# Altium schematic symbol library SpiritLevel_2E.SchLib: 39 symbols
Pins are listed as number, name and electrical type; pins without a type are passive.

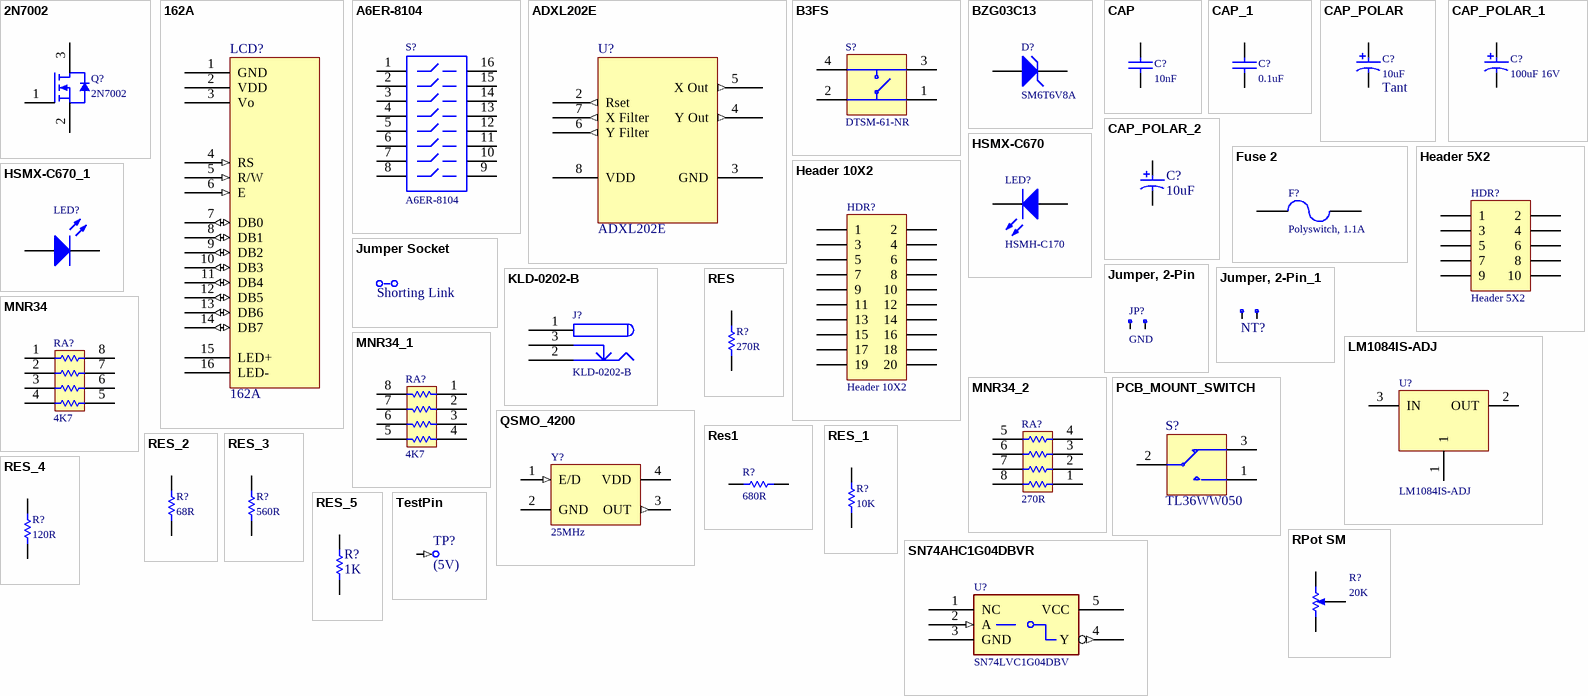
[diagram p0: symbols 2N7002 to TestPin]

## 2N7002
designator Q?
N Channel Mosfet
footprint Model Name (Model Description)
footprint SO-G3
3D model sot23-3 (PCB3D Model)
pins: 1 "Gate", 2 "Source", 3 "Drain"

## 162A
designator LCD?
16 char * 2 line LCD character display with b/light
footprint 162A
3D model 162a (PCB3D Model)
pins: 1 GND (power) "VSS - 0V", 2 VDD (power) "VDD - 5V", 3 Vo (hiz) "Input Voltage For LCD", 4 RS (in) "H = Data Signal, L = Instrunction Signal", 5 R/W (in) "H = Read Mode, L = Write Mode", 6 E (in) "Chip Enable (H, H->L)", 7 DB0 (io) "Chip Enable (H, H->L)", 8 DB1 (io) "Chip Enable (H, H->L)", 9 DB2 (io) "Chip Enable (H, H->L)", 10 DB3 (io) "Chip Enable (H, H->L)", 11 DB4 (io) "Chip Enable (H, H->L)", 12 DB5 (io) "Chip Enable (H, H->L)", 13 DB6 (io) "Chip Enable (H, H->L)", 14 DB7 (io) "Chip Enable (H, H->L)", 15 LED+ (power) "LED Backlight +", 16 LED- (power) "LED Backlight -"

## A6ER-8104
designator S?
DIP Switch Side actuator long liver Piano Key; Revision: July-2002: Re-released for DXP Platform.
footprint DIP-16-KEY
simulation model dpsw8 (Spice Subcircuit)
3D model SWITCH_DIP8 (PCB3D Model)
pins: 1, 2, 3, 4, 5, 6, 7, 8, 9, 10, 11, 12, 13, 14, 15, 16

## ADXL202E
designator U?
Accelerometer with Digital Output
footprint E-8
pins: 1 Self Test (in) hidden, 2 Rset (out), 3 GND (power), 4 Y Out (out), 5 X Out (out), 6 Y Filter (out), 7 X Filter (out), 8 VDD (power)

## B3FS
designator S?, comment DTSM-61-NR
SPNA SMD Keyboard Switch
footprint B3FS_SWITCH
3D model SPNA (PCB3D Model)
pins: 1, 2, 3, 4

## BZG03C13
designator D?, comment SM6T6V8A
Zener Diode, 6.2V, 5W; Manufacturer: Microsemi; Revision: 31-Oct-2003
footprint DO214
pins: 1 A, 2 K

## CAP
designator C?, comment 10nF
Capacitor; AEMS Code: 2100341
footprint CC1005-0402
footprint CC1608-0603
footprint CC2012-0805
footprint CC3216-1206
footprint CC3225-1210
signal-integrity model Guessed Model (Capacitor Model Details Guessed by Setup Helper)
3D model SMT_0603 (PCB3D Model)
3D model SMT_0805 (PCB3D Model)
pins: 1, 2

## CAP_1
designator C?, comment 0.1uF
Capacitor; Supplier: FARNELL; Supplier Code: 317-287
footprint CC1005-0402 (0402 Capacitor)
footprint CC1608-0603 (0603 Capacitor)
footprint CC2012-0805
footprint CC3216-1206 (1206 Capacitor)
footprint CC3225-1210 (1210 Capacitor)
footprint CC3225-0805
footprint CC1202-0805
3D model SMT_0603 (PCB3D Model)
3D model SMT_0805 (PCB3D Model)
pins: 1, 2

## CAP_POLAR
designator C?, comment 10uF  Capacitor Type: Tant
Polar Capacitor; AEMS Code: 2100110; Supplier: FARNELL; Supplier Code: 967-117
footprint MCCT-A (3216 Polar Capacitor)
footprint MCCT-B
footprint MCCT-C (6032 Polar Capacitor)
footprint MCCT-D (7343 Polar Capacitor)
3D model MCCTB (PCB3D Model)
pins: 1, 2

## CAP_POLAR_1
designator C?, comment 100uF 16V
Polar Capacitor
footprint MCCT-A (3216 Polar Capacitor)
footprint MCCT-B (3528 Polar Capacitor)
footprint MCCT-C (6032 Polar Capacitor)
footprint MCCT-D (7343 Polar Capacitor)
footprint RB8/3.5
footprint CAPPR2.5-6x7
footprint CAPPR2-5X6.8
3D model Cap5x6_8 (PCB3D Model)
pins: 1, 2

## CAP_POLAR_2
designator C?, comment 10uF
Polar Capacitor; AEMS Code: 2100110; Supplier: FARNELL; Supplier Code: 967-117
footprint MCCT-A (3216 Polar Capacitor)
footprint MCCT-B
footprint MCCT-C (6032 Polar Capacitor)
footprint MCCT-D (7343 Polar Capacitor)
footprint RAD01
3D model SMT_0603 (PCB3D Model)
3D model SMT_0805 (PCB3D Model)
pins: 1, 2

## Fuse 2
designator F?, comment Polyswitch, 1.1A
Polyswitch 1.1A, Raychem RUE110; Revision: July-2002: Re-released for DXP Platform.; Supplier: FARNELL; Supplier Code: 608-907
footprint PIN-W2/E2.8 (Fuse; 2 Leads)
simulation model FUSE (Spice Subcircuit)
footprint RUE160_0.2
3D model PolySwitch2 (PCB3D Model)
pins: 1, 2

## Header 5X2
designator HDR?
Header, 5-Pin, Dual row; Revision: 17-Jul-2002: Re-released for DXP Platform.
footprint HDR2X5_LP
signal-integrity model Connector
3D model 10_pin_box_male (PCB3D Model)
pins: 1, 2, 3, 4, 5, 6, 7, 8, 9, 10

## Header 10X2
designator HDR?
Header, 10-Pin, Dual row; Revision: July-2002: Re-released for DXP Platform.
footprint HDR2X10
signal-integrity model Connector
3D model HDR10X2 (PCB3D Model)
pins: 1, 2, 3, 4, 5, 6, 7, 8, 9, 10, 11, 12, 13, 14, 15, 16, 17, 18, 19, 20

## HSMX-C670
designator LED?, comment HSMH-C170
Typical RED GaAs SMD LED Agilent make; AEMS Code: 2610081; Revision: July-2002: Re-released for DXP Platform.
footprint SMD _LED
simulation model LED1 (Diode)
3D model LED (PCB3D Model)
pins: 1 A, 2 K

## HSMX-C670_1
designator LED?, comment HSMH-C170  (value not drawn)
Typical RED GaAs SMD LED Agilent make; AEMS Code: 2610081; Revision: July-2002: Re-released for DXP Platform.
footprint SMD _LED
simulation model LED1 (Diode)
3D model LED (PCB3D Model)
pins: 1 A, 2 K

## Jumper Socket
designator JS?, comment Shorting Link  (mechanical)
Shorting Link, 2.54mm (0.1") Pitch

## Jumper, 2-Pin
designator JP?, comment GND
Jumper, 2-Pin
footprint HDR1X2
signal-integrity model Connector
3D model HDR2x1 (PCB3D Model)
pins: 1, 2

## Jumper, 2-Pin_1
designator NT?  (value not drawn)  (net tie, no BOM)
Jumper, 2-Pin
footprint NT
signal-integrity model Connector
pins: 1, 2

## KLD-0202-B
designator J?
Low Voltage Power Supply Connector; Manufacturer: Kycon; AEMS Code: 3510211
footprint KLD-0202
3D model power_jack (PCB3D Model)
pins: 1 (power), 2 (power), 3 (power)

## LM1084IS-ADJ
designator U?
5A Low Dropout Possitive Regulators
footprint TO-263
3D model to263 (PCB3D Model)
pins: 1 "Output", 2 OUT (power) "Output", 3 IN (power) "Input"

## MNR34
designator RA?, comment 4K7
3216x4 Resistor Array; AEMS Code: 1300330
footprint MNR34
footprint MNR34T
pins: 1, 2, 3, 4, 5, 6, 7, 8

## MNR34_1
designator RA?, comment 4K7
3216x4 Resistor Array; AEMS Code: 1300330
footprint MNR34
footprint MNR34T
pins: 1, 2, 3, 4, 5, 6, 7, 8

## MNR34_2
designator RA?, comment 270R
3216x4 Resistor Array; AEMS Code: 1310010
footprint MNR34
pins: 1, 2, 3, 4, 5, 6, 7, 8

## PCB_MOUNT_SWITCH
designator S?, comment TL36WW050
SPDT Subminiature Toggle Switch; Supplier: FARNELL; Supplier Code: 150-559
footprint PCB_SWITCH
3D model SPST_Switch (PCB3D Model)
pins: 1, 2, 3

## QSMO_4200
designator Y?, comment 25MHz
Surface Mount Crystal Oscillator
footprint QSMO_4200
3D model crystal (PCB3D Model)
pins: 1 E/D (in) "Low Disables Clock", 2 GND (power), 3 OUT (out) "Output", 4 VDD (power)

## RES
designator R?, comment 270R
Resistor; AEMS Code: 1200430
footprint CC1005-0402 (0402 Resistor)
footprint CC1310-0504 (0504 Resistor)
footprint CC1608-0603
footprint CR2012-0805
footprint CC3216-1206 (1206 Resistor)
footprint CC3225-1210 (1210 Resistor)
footprint CC4513-1805 (1805 Resistor)
footprint CC2512 (2512 Resistor)
3D model SMT_0805 (PCB3D Model)
3D model SMT_0603 (PCB3D Model)
pins: 1, 2

## Res1
designator R?, comment 680R
Resistor; AEMS Code: CHANGED VALUE; Revision: July-2002: Re-released for DXP Platform.
simulation model RESISTOR (Resistor)
signal-integrity model Res
footprint CR2012-0805
3D model SMT_0603 (PCB3D Model)
3D model SMT_0805 (PCB3D Model)
pins: 1, 2
1 alternate drawing of the same symbol

## RES_1
designator R?, comment 10K
Resistor; AEMS Code: 1200006JT
footprint CC1005-0402 (0402 Resistor)
footprint CC1310-0504 (0504 Resistor)
footprint CC1608-0603
footprint CC2012-0805
footprint CC3216-1206 (1206 Resistor)
footprint CC3225-1210 (1210 Resistor)
footprint CC4513-1805 (1805 Resistor)
footprint CC2512 (2512 Resistor)
footprint CC1202-0805
3D model SMT_0603 (PCB3D Model)
3D model SMT_0805 (PCB3D Model)
pins: 1, 2

## RES_2
designator R?, comment 68R
Resistor; AEMS Code: 1200821
footprint CC1005-0402 (0402 Resistor)
footprint CC1310-0504 (0504 Resistor)
footprint CC1608-0603
footprint CC2012-0805
footprint CC3216-1206 (1206 Resistor)
footprint CC3225-1210 (1210 Resistor)
footprint CC4513-1805 (1805 Resistor)
footprint CC2512 (2512 Resistor)
footprint CC1202-0805
3D model SMT_0603 (PCB3D Model)
3D model SMT_0805 (PCB3D Model)
pins: 1, 2

## RES_3
designator R?, comment 560R
Resistor; AEMS Code: 1200723
footprint CC1005-0402 (0402 Resistor)
footprint CC1310-0504 (0504 Resistor)
footprint CC1608-0603
footprint CC2012-0805
footprint CC3216-1206 (1206 Resistor)
footprint CC3225-1210 (1210 Resistor)
footprint CC4513-1805 (1805 Resistor)
footprint CC2512 (2512 Resistor)
3D model SMT_0603 (PCB3D Model)
3D model SMT_0805 (PCB3D Model)
pins: 1, 2

## RES_4
designator R?, comment 120R
Resistor; AEMS Code: 1200781
footprint CC1005-0402 (0402 Resistor)
footprint CC1310-0504 (0504 Resistor)
footprint CC1608-0603
footprint CC2012-0805
footprint CC3216-1206 (1206 Resistor)
footprint CC3225-1210 (1210 Resistor)
footprint CC4513-1805 (1805 Resistor)
footprint CC2512 (2512 Resistor)
footprint CC3225-0805
footprint CC1202-0805
3D model SMT_0603 (PCB3D Model)
3D model SMT_0805 (PCB3D Model)
pins: 1, 2

## RES_5
designator R?, comment 1K
Resistor; AEMS Code: 1200008JN
footprint CC1005-0402 (0402 Resistor)
footprint CC1310-0504 (0504 Resistor)
footprint CC1608-0603
footprint CC2012-0805
footprint CC3216-1206 (1206 Resistor)
footprint CC3225-1210 (1210 Resistor)
footprint CC4513-1805 (1805 Resistor)
footprint CC2512 (2512 Resistor)
footprint CR2012-0805
3D model SMT_0603 (PCB3D Model)
3D model SMT_0805 (PCB3D Model)
pins: 1, 2

## RPot SM
designator R?, comment 20K
Square Trimming Potentiometer; AEMS Code: 1400226
footprint POT4MM-2
3D model SquarePot (PCB3D Model)
pins: CCW -, CW +, W
1 alternate drawing of the same symbol

## SN74AHC1G04DBVR
designator U?, comment SN74LVC1G04DBV
Manufacturer: TI
footprint SO-G5/P.95
pins: 1 NC, 2 A (in), 3 GND (power), 4 Y (out), 5 VCC (power)

## TestPin
designator TP?, comment (5V)  (no BOM)
footprint TestPin (SingleTest Pin)
footprint TP
footprint Test
pins: 1 (in)

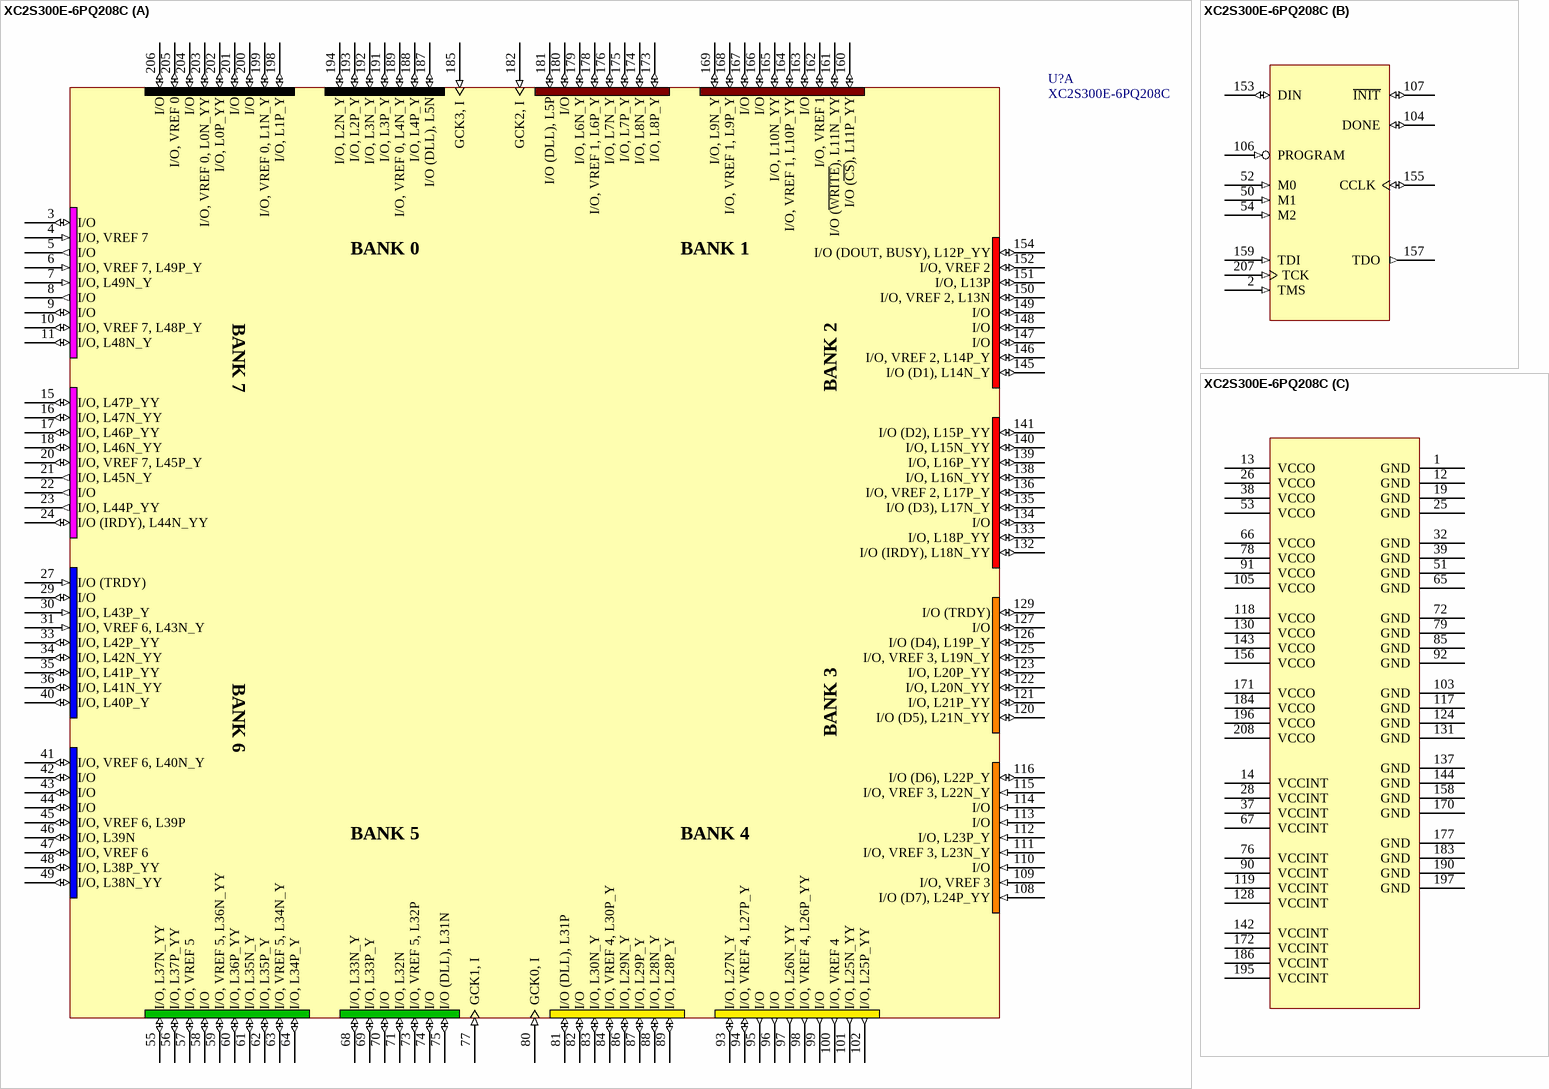
[diagram p1: symbol XC2S300E-6PQ208C]

## XC2S300E-6PQ208C
designator U?
Spartan-IIE 1.8V FPGA, 208-Pin PQFP, Standard Performance, Commercial Grade; PackageDocument: ver1.1, Oct-2002; Published: 19-Jul-2002; LatestRevisionDate: 17-Sep-2003; LatestRevisionNote: Pin names updated to match datasheet, ver2.1.; DatasheetDocument: 09-Jul-2003; PackageReference: PQ208; Publisher: Altium Limited; ComponentLink1Description: Manufacturer Link; ComponentLink1URL: http://www.xilinx.com/xlnx/xil_prodcat_landingpage.jsp?title=Spartan-IIE; Code_JEDEC: MS-029-FA-1
footprint PQ208
3D model XC2S300E-PQ208 (PCB3D Model)
signal-integrity model XC2S300E_PQ208 (Spartan-IIE)
part A pins: 3 I/O (io), 4 I/O, VREF 7 (in), 5 I/O (out), 6 I/O, VREF 7, L49P_Y (in), 7 I/O, L49N_Y (in), 8 I/O (out), 9 I/O (io), 10 I/O, VREF 7, L48P_Y (io), 11 I/O, L48N_Y (io), 15 I/O, L47P_YY (io), 16 I/O, L47N_YY (io), 17 I/O, L46P_YY (io), 18 I/O, L46N_YY (io), 20 I/O, VREF 7, L45P_Y (io), 21 I/O, L45N_Y (out), 22 I/O (out), 23 I/O, L44P_YY (out), 24 I/O (IRDY), L44N_YY (io), 27 I/O (TRDY) (in), 29 I/O (io), 30 I/O, L43P_Y (in), 31 I/O, VREF 6, L43N_Y (in), 33 I/O, L42P_YY (io), 34 I/O, L42N_YY (io), 35 I/O, L41P_YY (io), 36 I/O, L41N_YY (io), 40 I/O, L40P_Y (io), 41 I/O, VREF 6, L40N_Y (io), 42 I/O (io), 43 I/O (io), 44 I/O (io), 45 I/O, VREF 6, L39P (io), 46 I/O, L39N (io), 47 I/O, VREF 6 (io), 48 I/O, L38P_YY (io), 49 I/O, L38N_YY (io), 55 I/O, L37N_YY (io), 56 I/O, L37P_YY (io), 57 I/O, VREF 5 (io), 58 I/O (io), 59 I/O, VREF 5, L36N_YY (io), 60 I/O, L36P_YY (io), 61 I/O, L35N_Y (io), 62 I/O, L35P_Y (io), 63 I/O, VREF 5, L34N_Y (io), 64 I/O, L34P_Y (io), 68 I/O, L33N_Y (io), 69 I/O, L33P_Y (io), 70 I/O (io), 71 I/O, L32N (io), 73 I/O, VREF 5, L32P (io), 74 I/O (io), 75 I/O (DLL), L31N (io), 77 GCK1, I (in), 80 GCK0, I (in), 81 I/O (DLL), L31P (io), 82 I/O (io), 83 I/O, L30N_Y (io), 84 I/O, VREF 4, L30P_Y (io), 86 I/O, L29N_Y (io), 87 I/O, L29P_Y (io), 88 I/O, L28N_Y (io), 89 I/O, L28P_Y (io), 93 I/O, L27N_Y (io), 94 I/O, VREF 4, L27P_Y (io), 95 I/O (out), 96 I/O (out), 97 I/O, L26N_YY (out), 98 I/O, VREF 4, L26P_YY (out), 99 I/O (out), 100 I/O, VREF 4 (out), 101 I/O, L25N_YY (out), 102 I/O, L25P_YY (out), 108 I/O (D7), L24P_YY (in), 109 I/O, VREF 3 (in), 110 I/O (in), 111 I/O, VREF 3, L23N_Y (in), 112 I/O, L23P_Y (in), 113 I/O (in), 114 I/O (in), 115 I/O, VREF 3, L22N_Y (in), 116 I/O (D6), L22P_Y (io), 120 I/O (D5), L21N_YY (io), 121 I/O, L21P_YY (io), 122 I/O, L20N_YY (io), 123 I/O, L20P_YY (io), 125 I/O, VREF 3, L19N_Y (io), 126 I/O (D4), L19P_Y (io), 127 I/O (io), 129 I/O (TRDY) (io), 132 I/O (IRDY), L18N_YY (io), 133 I/O, L18P_YY (io), 134 I/O (io), 135 I/O (D3), L17N_Y (io), 136 I/O, VREF 2, L17P_Y (io), 138 I/O, L16N_YY (io), 139 I/O, L16P_YY (io), 140 I/O, L15N_YY (io), 141 I/O (D2), L15P_YY (io), 145 I/O (D1), L14N_Y (io), 146 I/O, VREF 2, L14P_Y (io), 147 I/O (io), 148 I/O (io), 149 I/O (io), 150 I/O, VREF 2, L13N (io), 151 I/O, L13P (io), 152 I/O, VREF 2 (io), 154 I/O (DOUT, BUSY), L12P_YY (io), 160 I/O (~{CS}), L11P_YY (io), 161 I/O (~{WRITE}), L11N_YY (io), 162 I/O, VREF 1 (io), 163 I/O (io), 164 I/O, VREF 1, L10P_YY (io), 165 I/O, L10N_YY (io), 166 I/O (io), 167 I/O (io), 168 I/O, VREF 1, L9P_Y (io), 169 I/O, L9N_Y (io), 173 I/O, L8P_Y (io), 174 I/O, L8N_Y (io), 175 I/O, L7P_Y (io), 176 I/O, L7N_Y (io), 178 I/O, VREF 1, L6P_Y (io), 179 I/O, L6N_Y (io), 180 I/O (io), 181 I/O (DLL), L5P (io), 182 GCK2, I (in), 185 GCK3, I (in), 187 I/O (DLL), L5N (io), 188 I/O, L4P_Y (io), 189 I/O, VREF 0, L4N_Y (io), 191 I/O, L3P_Y (io), 192 I/O, L3N_Y (io), 193 I/O, L2P_Y (io), 194 I/O, L2N_Y (io), 198 I/O, L1P_Y (io), 199 I/O, VREF 0, L1N_Y (io), 200 I/O (io), 201 I/O (io), 202 I/O, L0P_YY (io), 203 I/O, VREF 0, L0N_YY (io), 204 I/O (io), 205 I/O, VREF 0 (io), 206 I/O (io)
part B pins: 2 TMS (in), 50 M1 (in), 52 M0 (in), 54 M2 (in), 104 DONE (io), 106 PROGRAM (in), 107 ~{INIT} (io) "I/O (I\N\I\T\), L24N_YY", 153 DIN (io) "I/O (DIN, D0), L12N_YY", 155 CCLK (io), 157 TDO (out), 159 TDI (in), 207 TCK (in)
part C pins: 1 GND (power), 12 GND (power), 13 VCCO (power), 14 VCCINT (power), 19 GND (power), 25 GND (power), 26 VCCO (power), 28 VCCINT (power), 32 GND (power), 37 VCCINT (power), 38 VCCO (power), 39 GND (power), 51 GND (power), 53 VCCO (power), 65 GND (power), 66 VCCO (power), 67 VCCINT (power), 72 GND (power), 76 VCCINT (power), 78 VCCO (power), 79 GND (power), 85 GND (power), 90 VCCINT (power), 91 VCCO (power), 92 GND (power), 103 GND (power), 105 VCCO (power), 117 GND (power), 118 VCCO (power), 119 VCCINT (power), 124 GND (power), 128 VCCINT (power), 130 VCCO (power), 131 GND (power), 137 GND (power), 142 VCCINT (power), 143 VCCO (power), 144 GND (power), 156 VCCO (power), 158 GND (power), 170 GND (power), 171 VCCO (power), 172 VCCINT (power), 177 GND (power), 183 GND (power), 184 VCCO (power), 186 VCCINT (power), 190 GND (power), 195 VCCINT (power), 196 VCCO (power), 197 GND (power), 208 VCCO (power)
part A text: BANK 0; BANK 1; BANK 7; BANK 2; BANK 6; BANK 3; BANK 5; BANK 4

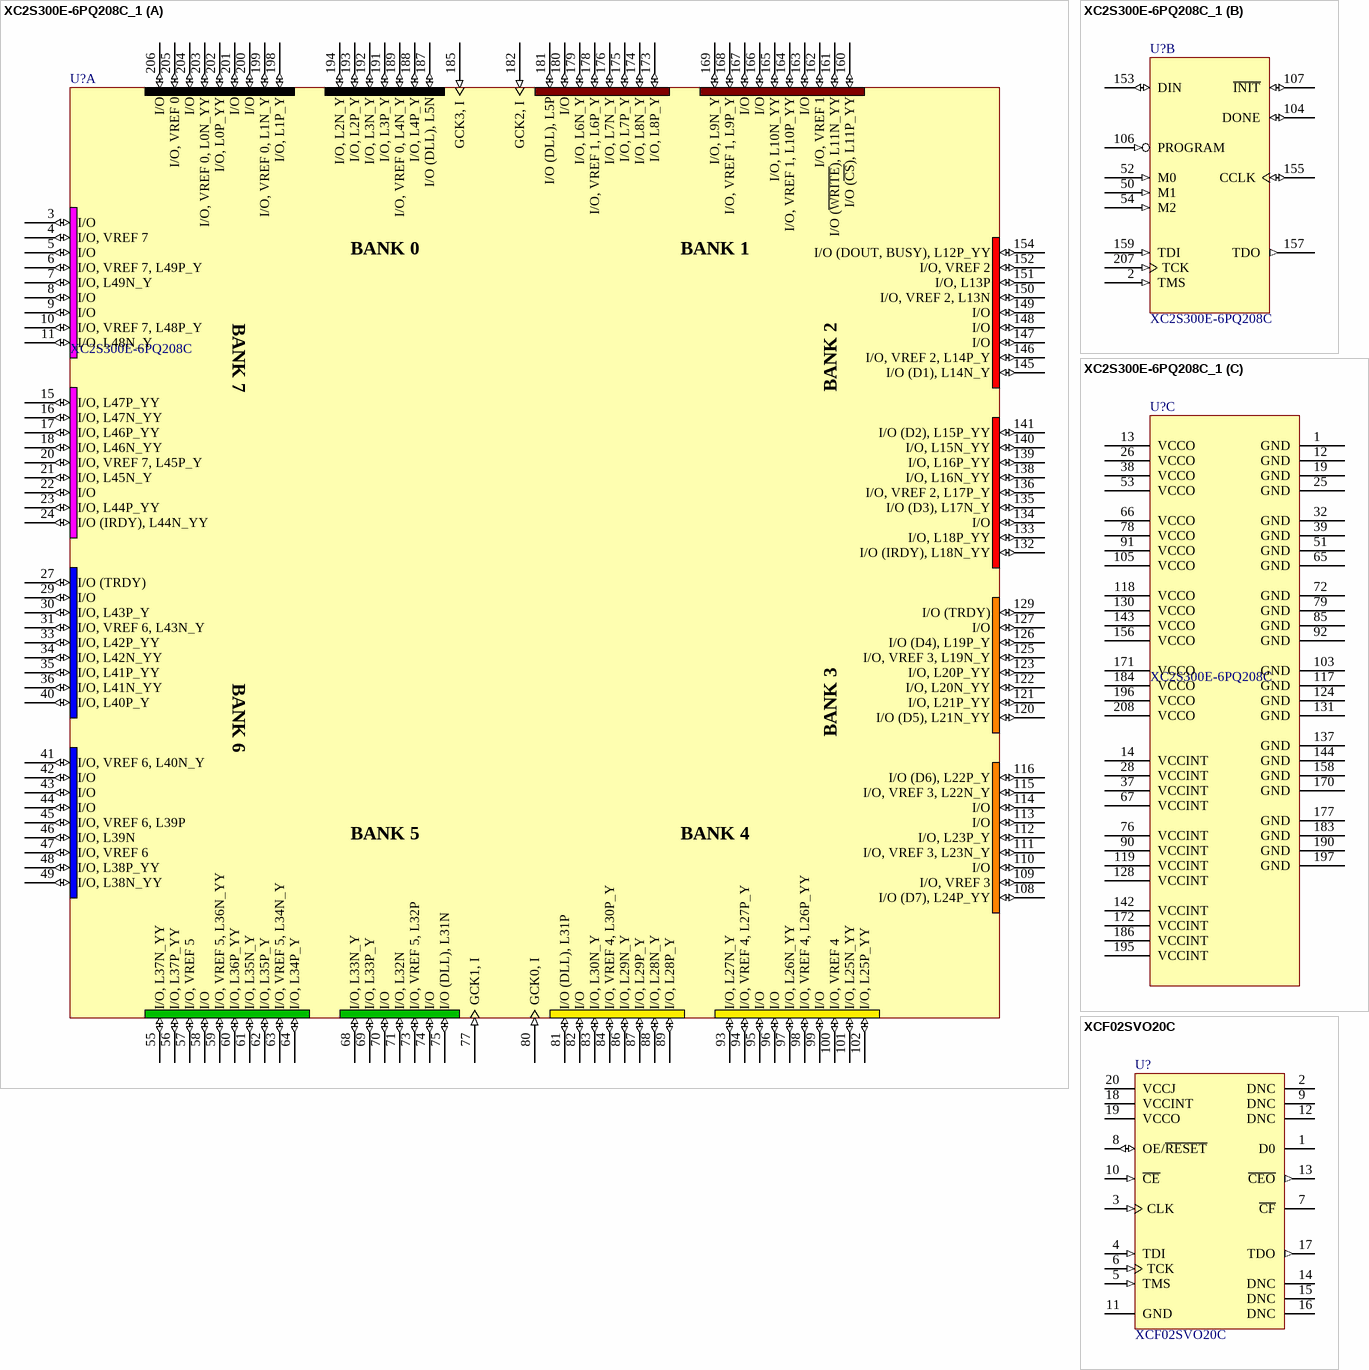
[diagram p2: symbols XC2S300E-6PQ208C_1 to XCF02SVO20C]

## XC2S300E-6PQ208C_1
designator U?, comment XC2S300E-6PQ208C
Spartan-IIE 1.8V FPGA, 208-Pin PQFP, Standard Performance, Commercial Grade; PackageDocument: ver1.1, Oct-2002; Published: 19-Jul-2002; LatestRevisionDate: 17-Sep-2003; LatestRevisionNote: Pin names updated to match datasheet, ver2.1.; DatasheetDocument: 09-Jul-2003; PackageReference: PQ208; Publisher: Altium Limited; ComponentLink1Description: Manufacturer Link; ComponentLink1URL: http://www.xilinx.com/xlnx/xil_prodcat_landingpage.jsp?title=Spartan-IIE; Code_JEDEC: MS-029-FA-1
footprint PQ208
3D model XC2S300E-PQ208 (PCB3D Model)
signal-integrity model XC2S300E_PQ208 (Spartan-IIE)
part A pins: 3 I/O (io), 4 I/O, VREF 7 (io), 5 I/O (io), 6 I/O, VREF 7, L49P_Y (io), 7 I/O, L49N_Y (io), 8 I/O (io), 9 I/O (io), 10 I/O, VREF 7, L48P_Y (io), 11 I/O, L48N_Y (io), 15 I/O, L47P_YY (io), 16 I/O, L47N_YY (io), 17 I/O, L46P_YY (io), 18 I/O, L46N_YY (io), 20 I/O, VREF 7, L45P_Y (io), 21 I/O, L45N_Y (io), 22 I/O (io), 23 I/O, L44P_YY (io), 24 I/O (IRDY), L44N_YY (io), 27 I/O (TRDY) (io), 29 I/O (io), 30 I/O, L43P_Y (io), 31 I/O, VREF 6, L43N_Y (io), 33 I/O, L42P_YY (io), 34 I/O, L42N_YY (io), 35 I/O, L41P_YY (io), 36 I/O, L41N_YY (io), 40 I/O, L40P_Y (io), 41 I/O, VREF 6, L40N_Y (io), 42 I/O (io), 43 I/O (io), 44 I/O (io), 45 I/O, VREF 6, L39P (io), 46 I/O, L39N (io), 47 I/O, VREF 6 (io), 48 I/O, L38P_YY (io), 49 I/O, L38N_YY (io), 55 I/O, L37N_YY (io), 56 I/O, L37P_YY (io), 57 I/O, VREF 5 (io), 58 I/O (io), 59 I/O, VREF 5, L36N_YY (io), 60 I/O, L36P_YY (io), 61 I/O, L35N_Y (io), 62 I/O, L35P_Y (io), 63 I/O, VREF 5, L34N_Y (io), 64 I/O, L34P_Y (io), 68 I/O, L33N_Y (io), 69 I/O, L33P_Y (io), 70 I/O (io), 71 I/O, L32N (io), 73 I/O, VREF 5, L32P (io), 74 I/O (io), 75 I/O (DLL), L31N (io), 77 GCK1, I (in), 80 GCK0, I (in), 81 I/O (DLL), L31P (io), 82 I/O (io), 83 I/O, L30N_Y (io), 84 I/O, VREF 4, L30P_Y (io), 86 I/O, L29N_Y (io), 87 I/O, L29P_Y (io), 88 I/O, L28N_Y (io), 89 I/O, L28P_Y (io), 93 I/O, L27N_Y (io), 94 I/O, VREF 4, L27P_Y (io), 95 I/O (io), 96 I/O (io), 97 I/O, L26N_YY (io), 98 I/O, VREF 4, L26P_YY (io), 99 I/O (io), 100 I/O, VREF 4 (io), 101 I/O, L25N_YY (io), 102 I/O, L25P_YY (io), 108 I/O (D7), L24P_YY (io), 109 I/O, VREF 3 (io), 110 I/O (io), 111 I/O, VREF 3, L23N_Y (io), 112 I/O, L23P_Y (io), 113 I/O (io), 114 I/O (io), 115 I/O, VREF 3, L22N_Y (io), 116 I/O (D6), L22P_Y (io), 120 I/O (D5), L21N_YY (io), 121 I/O, L21P_YY (io), 122 I/O, L20N_YY (io), 123 I/O, L20P_YY (io), 125 I/O, VREF 3, L19N_Y (io), 126 I/O (D4), L19P_Y (io), 127 I/O (io), 129 I/O (TRDY) (io), 132 I/O (IRDY), L18N_YY (io), 133 I/O, L18P_YY (io), 134 I/O (io), 135 I/O (D3), L17N_Y (io), 136 I/O, VREF 2, L17P_Y (io), 138 I/O, L16N_YY (io), 139 I/O, L16P_YY (io), 140 I/O, L15N_YY (io), 141 I/O (D2), L15P_YY (io), 145 I/O (D1), L14N_Y (io), 146 I/O, VREF 2, L14P_Y (io), 147 I/O (io), 148 I/O (io), 149 I/O (io), 150 I/O, VREF 2, L13N (io), 151 I/O, L13P (io), 152 I/O, VREF 2 (io), 154 I/O (DOUT, BUSY), L12P_YY (io), 160 I/O (~{CS}), L11P_YY (io), 161 I/O (~{WRITE}), L11N_YY (io), 162 I/O, VREF 1 (io), 163 I/O (io), 164 I/O, VREF 1, L10P_YY (io), 165 I/O, L10N_YY (io), 166 I/O (io), 167 I/O (io), 168 I/O, VREF 1, L9P_Y (io), 169 I/O, L9N_Y (io), 173 I/O, L8P_Y (io), 174 I/O, L8N_Y (io), 175 I/O, L7P_Y (io), 176 I/O, L7N_Y (io), 178 I/O, VREF 1, L6P_Y (io), 179 I/O, L6N_Y (io), 180 I/O (io), 181 I/O (DLL), L5P (io), 182 GCK2, I (in), 185 GCK3, I (in), 187 I/O (DLL), L5N (io), 188 I/O, L4P_Y (io), 189 I/O, VREF 0, L4N_Y (io), 191 I/O, L3P_Y (io), 192 I/O, L3N_Y (io), 193 I/O, L2P_Y (io), 194 I/O, L2N_Y (io), 198 I/O, L1P_Y (io), 199 I/O, VREF 0, L1N_Y (io), 200 I/O (io), 201 I/O (io), 202 I/O, L0P_YY (io), 203 I/O, VREF 0, L0N_YY (io), 204 I/O (io), 205 I/O, VREF 0 (io), 206 I/O (io)
part B pins: 2 TMS (in), 50 M1 (in), 52 M0 (in), 54 M2 (in), 104 DONE (io), 106 PROGRAM (in), 107 ~{INIT} (io) "I/O (I\N\I\T\), L24N_YY", 153 DIN (io) "I/O (DIN, D0), L12N_YY", 155 CCLK (io), 157 TDO (out), 159 TDI (in), 207 TCK (in)
part C pins: 1 GND (power), 12 GND (power), 13 VCCO (power), 14 VCCINT (power), 19 GND (power), 25 GND (power), 26 VCCO (power), 28 VCCINT (power), 32 GND (power), 37 VCCINT (power), 38 VCCO (power), 39 GND (power), 51 GND (power), 53 VCCO (power), 65 GND (power), 66 VCCO (power), 67 VCCINT (power), 72 GND (power), 76 VCCINT (power), 78 VCCO (power), 79 GND (power), 85 GND (power), 90 VCCINT (power), 91 VCCO (power), 92 GND (power), 103 GND (power), 105 VCCO (power), 117 GND (power), 118 VCCO (power), 119 VCCINT (power), 124 GND (power), 128 VCCINT (power), 130 VCCO (power), 131 GND (power), 137 GND (power), 142 VCCINT (power), 143 VCCO (power), 144 GND (power), 156 VCCO (power), 158 GND (power), 170 GND (power), 171 VCCO (power), 172 VCCINT (power), 177 GND (power), 183 GND (power), 184 VCCO (power), 186 VCCINT (power), 190 GND (power), 195 VCCINT (power), 196 VCCO (power), 197 GND (power), 208 VCCO (power)
part A text: BANK 0; BANK 1; BANK 7; BANK 2; BANK 6; BANK 3; BANK 5; BANK 4

## XCF02SVO20C
designator U?
XCF00S Series, Platform Flash In-System Programmable Configuration 3.3V PROM, 20-Pin TSOP, 2-Megabit, Commercial Grade; PackageDocument: ver1.0, May-2003; AEMS Code: CHANGED VALUE; DatasheetDocument: ver2.3, May-2004; PackageReference: VO20; Code_JEDEC: MO-153-AC
footprint VO20
pins: 1 D0 (hiz) "Serial Data Output, for configuring an FPGA in serial mode.", 2 DNC "Leave Unconnected.", 3 CLK (in) "Configuration Clock Input.", 4 TDI (in) "JTAG Serial Data Input.", 5 TMS (in) "JTAG Mode Select Input.", 6 TCK (in) "JTAG Test Clock Input.", 7 ~{CF} (oc) "Configuration Pulse (Open-Drain Output).", 8 OE/~{RESET} (io) "Output Enable/Reset (Open-Drain I/O).", 9 DNC "Leave Unconnected.", 10 ~{CE} (in) "Chip Enable Input.", 11 GND (power) "Ground", 12 DNC "Leave Unconnected.", 13 ~{CEO} (out) "Chip Enable Output, connects to the CE input of the next PROM in the chain.", 14 DNC "Leave Unconnected.", 15 DNC "Leave Unconnected.", 16 DNC "Leave Unconnected.", 17 TDO (out) "JTAG Serial Data Output.", 18 VCCINT (power) "+3.3V Supply for internal logic.", 19 VCCO (power) "+3.3V, 2.5V, or 1.8V I/O Supply.", 20 VCCJ (power) "+3.3V or 2.5V JTAG Signals I/O Supply."